# EAGLE library part TCMT4100 (library PP_DigitalIC)
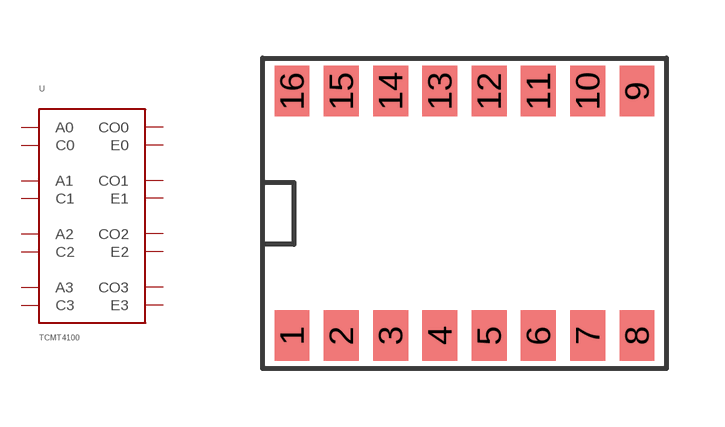
[diagram p11: symbol with the pads of SOP-16; footprint SOP-16]

Designator prefix U

## TCMT4100SOP-16  [SOP-16]
1  A0
2  C0
3  A1
4  C1
5  A2
6  C2
7  A3
8  C3
9  E3
10  CO3
11  E2
12  CO2
13  E1
14  CO1
15  E0
16  CO0

## Footprint SOP-16 (pad centres in mm)
smd 0.9 x 1.3: 1 -4.445,-3.15; 2 -3.175,-3.15; 3 -1.905,-3.15; 4 -0.635,-3.15; 5 0.635,-3.15; 6 1.905,-3.15; 7 3.175,-3.15; 8 4.445,-3.15; 9 4.445,3.15; 10 3.175,3.15; 11 1.905,3.15; 12 0.635,3.15; 13 -0.635,3.15; 14 -1.905,3.15; 15 -3.175,3.15; 16 -4.445,3.15